# Altium footprint library Custom Components.PcbLib: 49 footprints (part 4 of 4)
Each footprint in its own frame and in the unit in brackets; x right, y up, seen from the top. Pads: shape width x height; smd on the part's side, far side on the other; paste and mask are expansions set on the pad; w line width, h text height; cw(c..) or ccw(c..) is an arc to the next point about the centre after c.
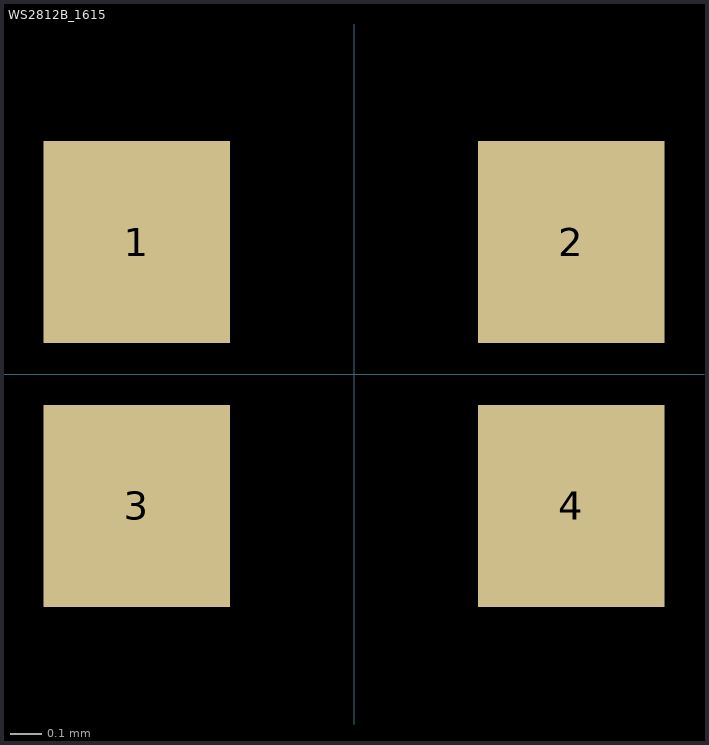
[diagram p3: the footprint, top view; thin cyan lines are the x and y axes]

## WS2812B_1615 [mm]
pads (4):
  rect 0.6x0.65 smd: 1(-0.7,0.425) 2(0.7,0.425) 3(-0.7,-0.425) 4(0.7,-0.425)
3D body: height 0.6, standoff 0, extent -0.8,-0.75 0.8,0.75